# Altium schematic symbol library XT30.SchLib: 1 symbol
Pins are listed as number, name and electrical type; pins without a type are passive.

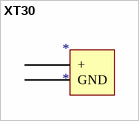
[diagram p0: symbol XT30]

## XT30
designator *
footprint XT30
pins: 1 +, 2 GND